# EAGLE library part RBBBSHIELDA (library MTS-OTR_Custom)
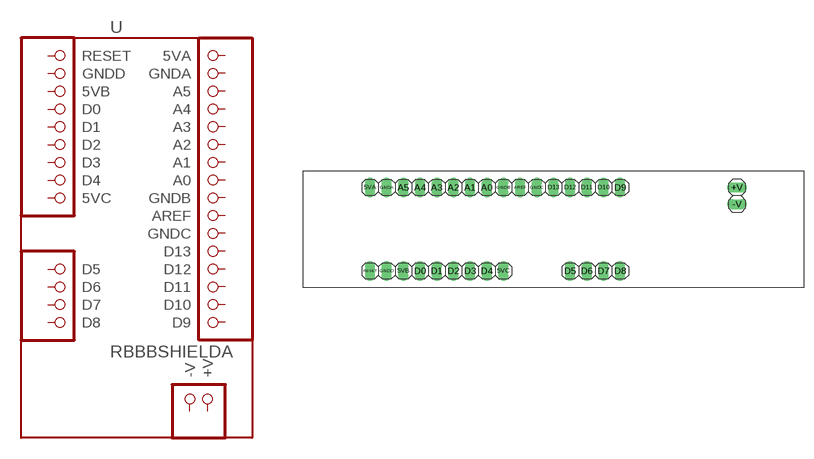
[diagram p4: symbol with the pads of RBBBSHIELD; footprint RBBBSHIELD]

Designator prefix -

## RBBBSHIELDA  [RBBBSHIELD]
5VA  5VA  pas
5VB  5VB  pas
5VC  5VC  pas
+V  +V  pas
-V  -V  pas
A0  A0  pas
A1  A1  pas
A2  A2  pas
A3  A3  pas
A4  A4  pas
A5  A5  pas
AREF  AREF  pas
D0  D0  pas
D1  D1  pas
D2  D2  pas
D3  D3  pas
D4  D4  pas
D5  D5  pas
D6  D6  pas
D7  D7  pas
D8  D8  pas
D9  D9  pas
D10  D10  pas
D11  D11  pas
D12  D12  pas
D13  D13  pas
GNDA  GNDA  pas
GNDB  GNDB  pas
GNDC  GNDC  pas
GNDD  GNDD  pas
RESET  RESET  pas

## Footprint RBBBSHIELD (pad centres in mm)
drill 1.016 long: 5VA -27.94,6.35; 5VB -22.86,-6.35; 5VC -7.62,-6.35; +V 27.94,6.35; -V 27.94,3.81; A0 -10.16,6.35; A1 -12.7,6.35; A2 -15.24,6.35; A3 -17.78,6.35; A4 -20.32,6.35; A5 -22.86,6.35; AREF -5.08,6.35; D0 -20.32,-6.35; D1 -17.78,-6.35; D2 -15.24,-6.35; D3 -12.7,-6.35; D4 -10.16,-6.35; D5 2.54,-6.35; D6 5.08,-6.35; D7 7.62,-6.35; D8 10.16,-6.35; D9 10.16,6.35; D10 7.62,6.35; D11 5.08,6.35; D12 2.54,6.35; D13 0,6.35; GNDA -25.4,6.35; GNDB -7.62,6.35; GNDC -2.54,6.35; GNDD -25.4,-6.35; RESET -27.94,-6.35